# Altium footprint library SIM_Micro_PCBlib.PcbLib: 1 footprints
Each footprint in its own frame and in the unit in brackets; x right, y up, seen from the top. Pads: shape width x height; smd on the part's side, far side on the other; paste and mask are expansions set on the pad; w line width, h text height; cw(c..) or ccw(c..) is an arc to the next point about the centre after c.
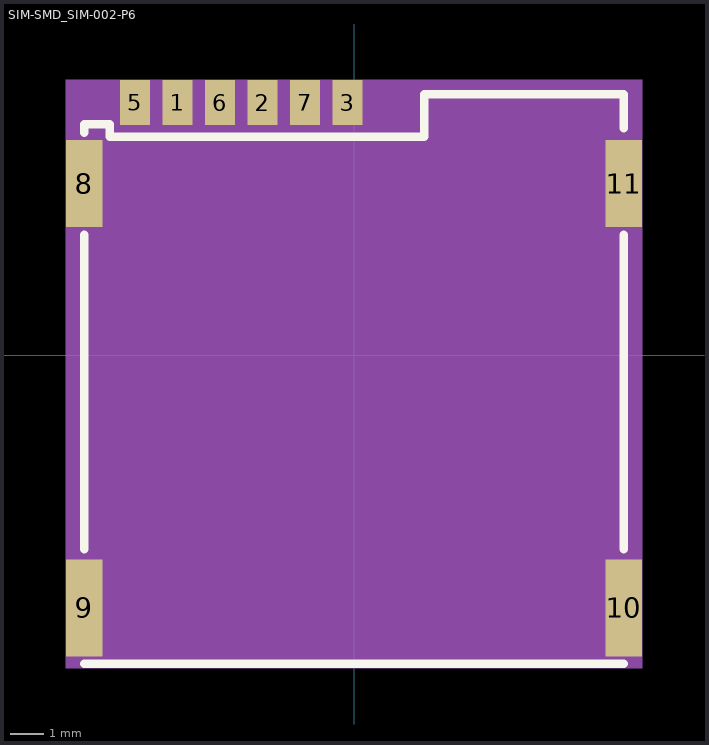
[diagram p0: the footprint, top view; thin cyan lines are the x and y axes]

## SIM-SMD_SIM-002-P6 [mm]
pads (10):
  rect 0.9x1.35 smd: 1(-5.27,7.553) 2(-2.73,7.553) 3(-0.19,7.553) 5(-6.54,7.553) 6(-4,7.553) 7(-1.46,7.553)
  rect 1.1x2.6 smd: 8(-8.06,5.128) 11(8.06,5.128)
  rect 1.1x2.9 smd: 9(-8.06,-7.552) 10(8.06,-7.552)
Top Overlay:
  lines w0.254: -8.06,-9.223 8.069,-9.223 ; -8.06,-5.794 -8.06,3.604 ; -8.06,6.652 -8.06,6.906 -7.298,6.906 -7.298,6.525 2.1,6.525 2.1,7.795 8.069,7.795 8.069,6.779 ; 8.069,-5.794 8.069,3.604
Mechanical 4:
  region: -8.61,8.228 8.619,8.228 8.619,-9.35 -8.61,-9.35
Mechanical 5:
  region: -5.72,8.228 -4.82,8.228 -4.82,6.878 -5.72,6.878
  region: -3.18,8.228 -2.28,8.228 -2.28,6.878 -3.18,6.878
  region: -0.64,8.228 0.26,8.228 0.26,6.878 -0.64,6.878
  region: -6.99,8.228 -6.09,8.228 -6.09,6.878 -6.99,6.878
  region: -4.45,8.228 -3.55,8.228 -3.55,6.878 -4.45,6.878
  region: -1.91,8.228 -1.01,8.228 -1.01,6.878 -1.91,6.878
  region: -8.61,6.428 -7.51,6.428 -7.51,3.828 -8.61,3.828
  region: -8.61,-6.102 -7.51,-6.102 -7.51,-9.002 -8.61,-9.002
  region: 7.51,-6.102 8.61,-6.102 8.61,-9.002 7.51,-9.002
  region: 7.51,6.428 8.61,6.428 8.61,3.828 7.51,3.828